# EAGLE library part CON10 (library ConV4)
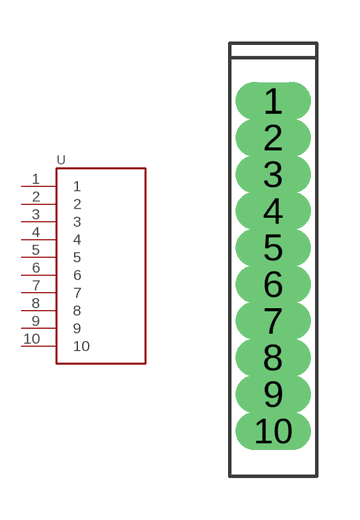
[diagram p8: symbol with the pads of CON10-127; footprint CON10-127]

Designator prefix -

## CON10  [CON10-127]
1  1
2  2
3  3
4  4
5  5
6  6
7  7
8  8
9  9
10  10

## Footprint CON10-127 (pad centres in mm)
drill 0.8 pad 1 long: 1 0,0; 2 0,-1.27; 3 0,-2.54; 4 0,-3.81; 5 0,-5.08; 6 0,-6.35; 7 0,-7.62; 8 0,-8.89; 9 0,-10.16; 10 0,-11.43